# Altium footprint library 2020-01-21_20-32-00.PcbLib: 1 footprints
Each footprint in its own frame and in the unit in brackets; x right, y up, seen from the top. Pads: shape width x height; smd on the part's side, far side on the other; paste and mask are expansions set on the pad; w line width, h text height; cw(c..) or ccw(c..) is an arc to the next point about the centre after c.
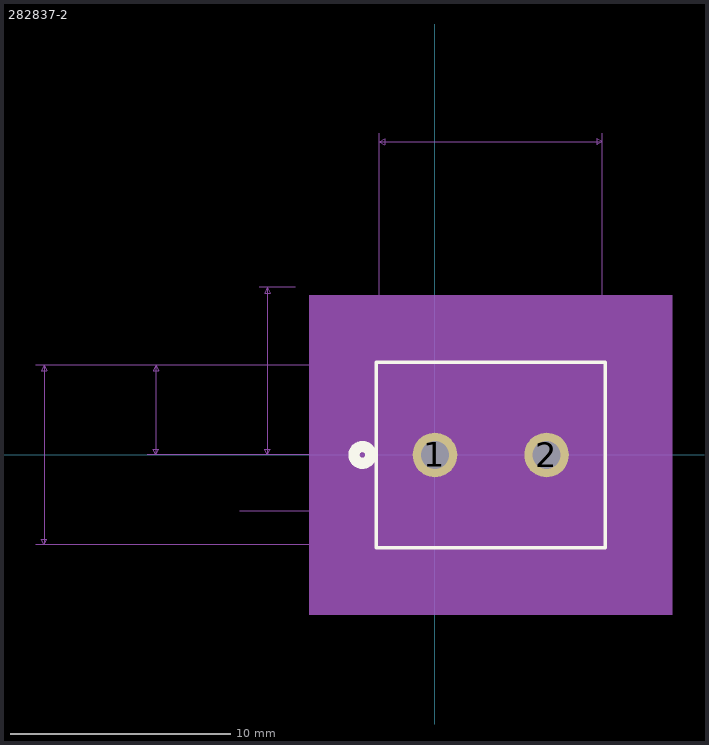
[diagram p0: the footprint, top view; thin cyan lines are the x and y axes]

## 282837-2 [mil]
pads (2):
  round 80 hole 50: 1(0,0) 2(200,0)
Top Overlay:
  circle w20: c-130,0 r15
  lines w6: -105,-166 305,-166 305,166 -105,166 -105,-166
Bottom Overlay:
  circle w20: c-130,0 r15
Mechanical 5:
  region: -225,286 425,286 425,-286 -225,-286
Mechanical 7:
  lines w1: -715,-161 -100,-161 ; -715,161 -100,161 ; -515,0 100,0 ; -515,161 -100,161 ; -350,-100 -215,-100 ; -315,0 100,0 ; -315,300 -250,300 ; -215,0 100,0 ; -200,-150 -200,-100 ; -200,50 -200,0 ; -100,576 -100,161 ; 0,0 0,276 ; 200,276 200,0 ; 300,161 300,576 ; 400,-50 400,0 ; 400,50 400,0 ; -700,-161 -700,161 ; -700,-161 -705,-151 -695,-151 -700,-161 ; -700,161 -705,151 -695,151 -700,161 ; -500,0 -500,161 ; -500,0 -505,10 -495,10 -500,0 ; -500,161 -505,151 -495,151 -500,161 ; -300,0 -300,300 ; -300,0 -305,10 -295,10 -300,0 ; -300,300 -305,290 -295,290 -300,300 ; -200,-100 -205,-110 -195,-110 -200,-100 ; -200,0 -205,10 -195,10 -200,0 ; -100,561 300,561 ; -100,561 -90,566 -90,556 -100,561 ; 0,261 200,261 ; 0,261 10,266 10,256 0,261 ; 200,0 415,0 200,0 ; 200,261 190,266 190,256 200,261 ; 300,561 290,566 290,556 300,561 ; 400,0 395,10 405,10 400,0 ; 400,0 395,-10 405,-10 400,0
  text "Default Padstyle: EX80Y80D50P" at -262.5,-311 h50
  text "1st Mtg Padstyle: RX80Y80D50P" at -262.5,-386 h50
  text "2nd Mtg Padstyle: EX70Y70D70P" at -262.5,-461 h50
  text "3rd Mtg Padstyle: EX70Y70D70P" at -262.5,-536 h50
  text "Left Mtg Padstyle: EX60Y60D30P" at -275,-611 h50
  text "Right Mtg Padstyle: EX60Y60D30P" at -287.5,-686 h50
  text "Alt Padstyle 1: OX60Y90D30P" at -237.5,-761 h50
  text "Alt Padstyle 2: OX90Y60D30P" at -237.5,-836 h50
  text "0.2in/5.08mm" at 25,281 h25
  text "0.4in/10.16mm" at 18.75,581 h25
  text "0in/0mm" at 420,-12.5 h25
  text "0in/0mm" at -307.5,-62.5 h25
  text "0.3in/7.62mm" at -470,137.5 h25
  text "0.161in/4.089mm" at -707.5,68 h25
  text "0.322in/8.179mm" at -907.5,-12.5 h25
Mechanical 13:
  circle w20: c0,75 r15
  lines w1: -100,-161 300,-161 300,161 -100,161 -100,-161
Mechanical 15:
  region: 310,171 -110,171 -110,-171 310,-171
  lines w6: -110,-171 -110,171 310,171 310,-171 -110,-171
3D body: height 10, standoff 0, extent 0,0 10,10